# Altium footprint library microSD_DM3D-SF.PcbLib: 1 footprints
Each footprint in its own frame and in the unit in brackets; x right, y up, seen from the top. Pads: shape width x height; smd on the part's side, far side on the other; paste and mask are expansions set on the pad; w line width, h text height; cw(c..) or ccw(c..) is an arc to the next point about the centre after c.
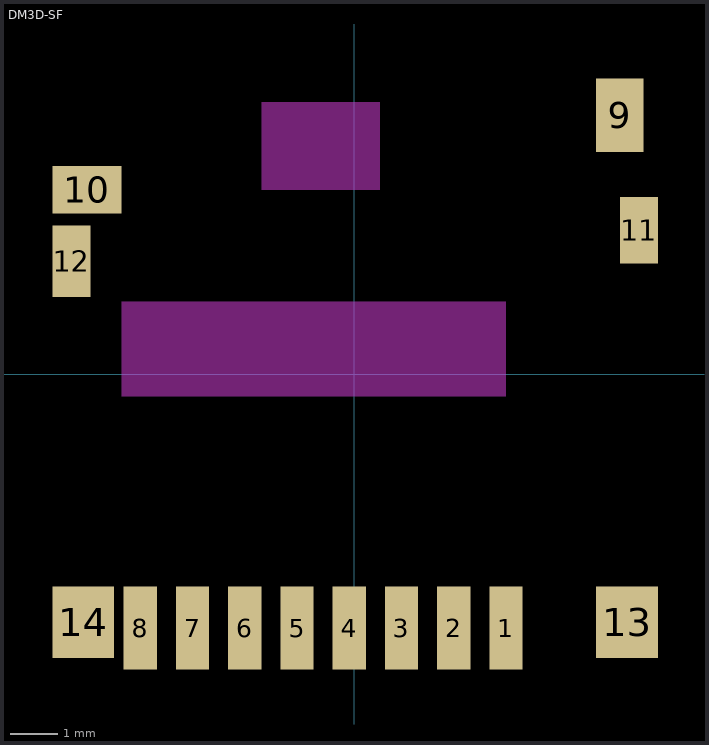
[diagram p0: the footprint, top view; thin cyan lines are the x and y axes]

## DM3D-SF [mm]
pads (14):
  rect 0.7x1.75 smd: 1(3.2,-5.35) 2(2.1,-5.35) 3(1,-5.35) 4(-0.1,-5.35) 5(-1.2,-5.35) 6(-2.3,-5.35) 7(-3.4,-5.35) 8(-4.5,-5.35)
  rect 1x1.55 smd: 9(5.6,5.45)
  rect 1.45x1 smd: 10(-5.625,3.875)
  rect 0.8x1.4 smd: 11(6,3.025)
  rect 0.8x1.5 smd: 12(-5.95,2.375)
  rect 1.3x1.5 smd: 13(5.75,-5.225) 14(-5.7,-5.225)
Top Layer keep-out:
  rectangle: -4.9,-0.475 3.2,1.525
  rectangle: -1.95,3.875 0.55,5.725
3D body: height 1.55, standoff 0, extent -5.975,-5.725 5.975,5.725